# Altium footprint library Mestrado_Roger1.PcbLib: 6 footprints
Each footprint in its own frame and in the unit in brackets; x right, y up, seen from the top. Pads: shape width x height; smd on the part's side, far side on the other; paste and mask are expansions set on the pad; w line width, h text height; cw(c..) or ccw(c..) is an arc to the next point about the centre after c.
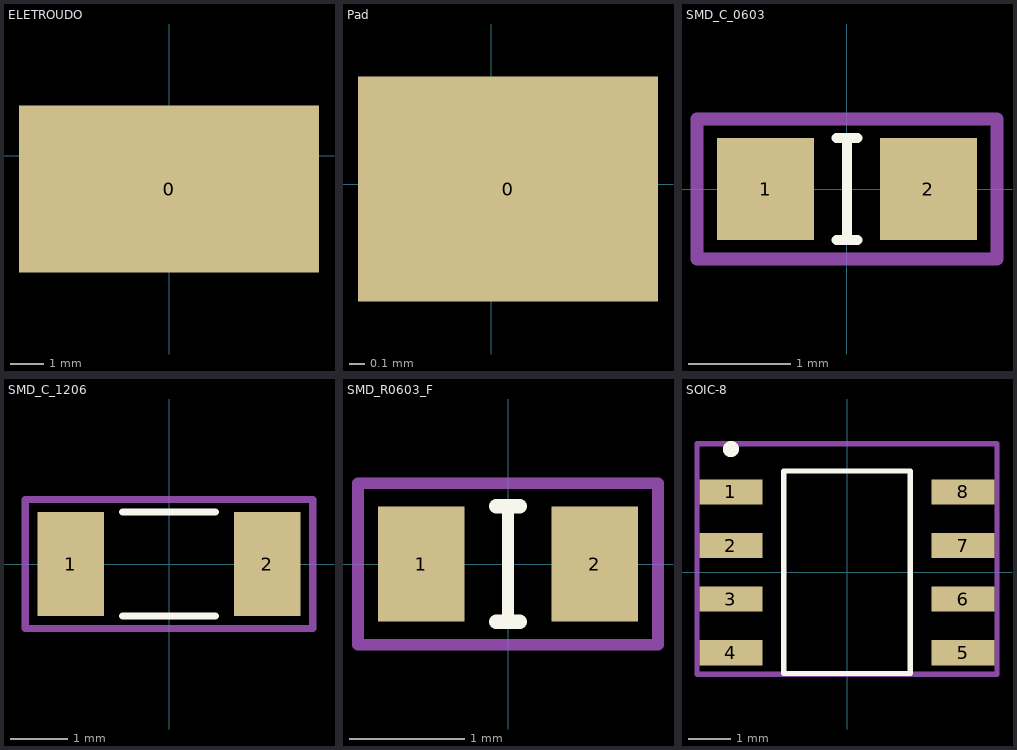
[diagram p0: the footprints below, top view; thin cyan lines are the x and y axes]

## ELETROUDO [mm]
pads (1):
  rect 9x5 smd mask+0.127: 0(0,-1)

## Pad [mm]
pads (1):
  rect 2x1.5 smd: 0(0.111,-0.033)

## SMD_C_0603 [mm]
pads (2):
  rect 0.95x1 smd: 1(-0.8,0) 2(0.8,0)
Top Overlay:
  lines w0.1: -0.1,-0.5 0.1,-0.5 ; -0.1,0.5 0.1,0.5 ; 0,-0.5 0,0.5
Mechanical 15:
  lines w0.127: -1.473,-0.686 -1.473,0.686 1.473,0.686 1.473,-0.686 -1.473,-0.686
3D body "User Library-0603(1608M) Cap.STEP": height 0.79, standoff 0, extent -1,-0.394 1,0.394

## SMD_C_1206 [mm]
pads (2):
  rect 1.15x1.8 smd: 1(-1.7,0) 2(1.7,0)
Top Overlay:
  lines w0.127: -0.8,-0.9 0.8,-0.9 ; -0.8,0.9 0.8,0.9
Mechanical 15:
  lines w0.127: -2.489,-1.118 2.489,-1.118 2.489,1.118 -2.489,1.118 -2.489,-1.118
3D body "User Library-1206(3216M) Cap.STEP": height 1.53, standoff 0, extent -2,-0.8 2,0.8

## SMD_R0603_F [mm]
pads (2):
  rect 0.75x1 smd: 1(-0.75,0) 2(0.75,0)
Top Overlay:
  lines w0.1: 0,-0.5 0,0 0,0.5
  lines w0.127: -0.1,-0.5 0.1,-0.5 ; -0.1,0.5 0.1,0.5
Mechanical 15:
  lines w0.1: -1.3,-0.7 -1.3,0.7 1.3,0.7 1.3,-0.7 -1.3,-0.7
3D body "User Library-RESC1608X05N.STEP": height 0.45, standoff 0, extent -0.775,-0.425 0.775,0.425

## SOIC-8 [mm]
pads (8):
  rect 1.5x0.6 smd: 1(-2.75,1.905) 2(-2.75,0.635) 3(-2.75,-0.635) 4(-2.75,-1.905) 5(2.75,-1.905) 6(2.75,-0.635) 7(2.75,0.635) 8(2.75,1.905)
Top Overlay:
  circle w0.254: c-2.75,2.921 r0.064
  lines w0.127: -1.5,-2.4 -1.5,2.4 1.5,2.4 1.5,-2.4 -1.5,-2.4
Mechanical 15:
  lines w0.127: -3.556,-2.413 -3.556,3.048 3.556,3.048 3.556,-2.413 -3.556,-2.413
3D body "D0008A.stp": height 1.62, standoff -0.01, extent -3,-2.45 3,2.45